# EAGLE library part ATSAMD21G (library atsamd51)
Atmel SAMD21G SMART ARM-Based Microcontroller The Atmel ® | SMART ™ SAM D21 is a series of low-power microcontrollers using the 32-bit ARM ® Cortex ® -M0+ processor, and ranging from 32- to 64-pins with up to 256KB Flash and 32KB of SRAM. The SAM D21 devices operate at a maximum frequency of 48MHz and reach 2.46 CoreMark/MHz. They are designed for simple and intuitive migration with identical peripheral modules, hex compatible code, identical linear address map and pin compatible migration paths between all devices in the product series. All devices include intelligent and flexible peripherals, Atmel Event System for inter-peripheral signaling, and support for capacitive touch button, slider and wheel user interfaces. Datasheet <https://cdn.sparkfun.com/datasheets/Dev/Arduino/Boards/Atmel-42181-SAM-D21_Datasheet.pdf> SparkFun Products SparkFun SAMD21 Mini Breakout <https://www.sparkfun.com/products/13664> (DEV-13664) SparkFun SAMD21 Dev Breakout <https://www.sparkfun.com/products/13672> (DEV-13672)
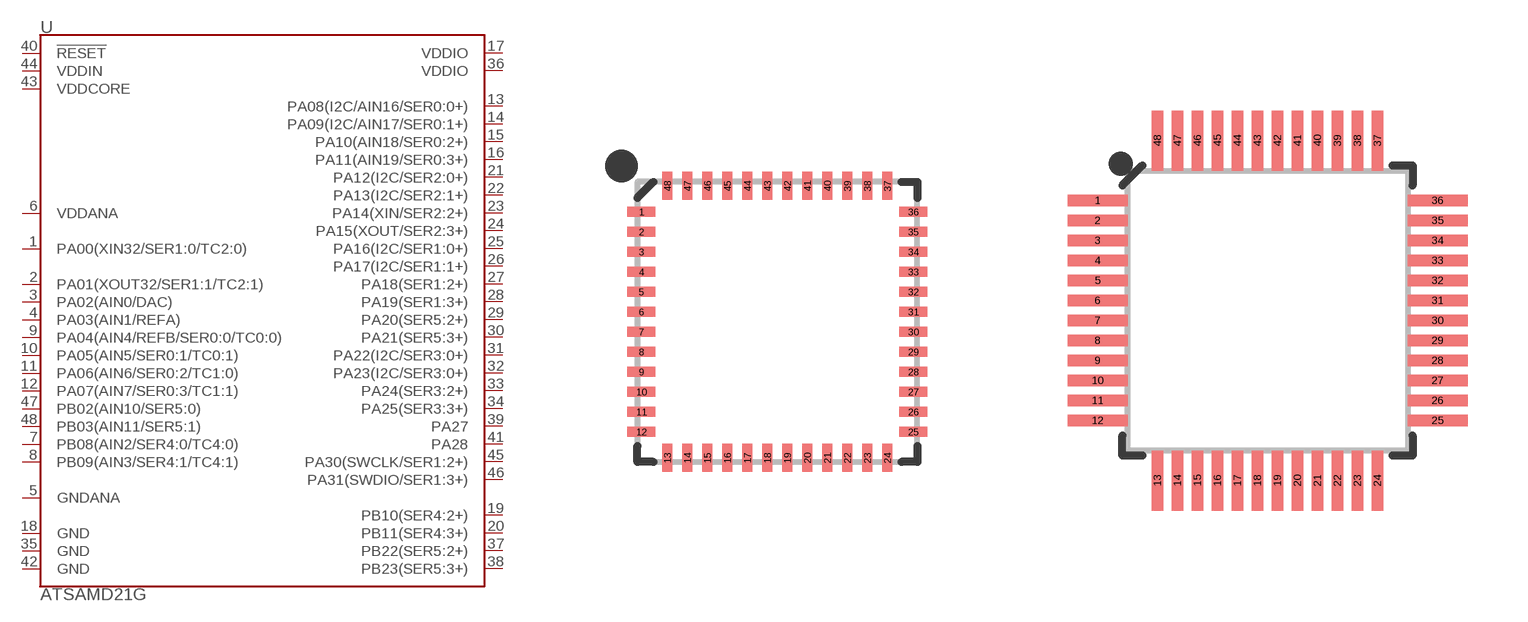
[diagram p0: symbol with the pads of QFN-48; footprints QFN-48, TQFP-48]

Designator prefix U

## ATSAMD21G-M (PROD_ID: IC-13064)  [QFN-48]
1  PA00(XIN32/SER1:0/TC2:0)
2  PA01(XOUT32/SER1:1/TC2:1)
3  PA02(AIN0/DAC)
4  PA03(AIN1/REFA)
5  GNDANA
6  VDDANA
7  PB08(AIN2/SER4:0/TC4:0)
8  PB09(AIN3/SER4:1/TC4:1)
9  PA04(AIN4/REFB/SER0:0/TC0:0)
10  PA05(AIN5/SER0:1/TC0:1)
11  PA06(AIN6/SER0:2/TC1:0)
12  PA07(AIN7/SER0:3/TC1:1)
13  PA08(I2C/AIN16/SER0:0+)
14  PA09(I2C/AIN17/SER0:1+)
15  PA10(AIN18/SER0:2+)
16  PA11(AIN19/SER0:3+)
17  VDDIO
18  GND
19  PB10(SER4:2+)
20  PB11(SER4:3+)
21  PA12(I2C/SER2:0+)
22  PA13(I2C/SER2:1+)
23  PA14(XIN/SER2:2+)
24  PA15(XOUT/SER2:3+)
25  PA16(I2C/SER1:0+)
26  PA17(I2C/SER1:1+)
27  PA18(SER1:2+)
28  PA19(SER1:3+)
29  PA20(SER5:2+)
30  PA21(SER5:3+)
31  PA22(I2C/SER3:0+)
32  PA23(I2C/SER3:0+)
33  PA24(SER3:2+)
34  PA25(SER3:3+)
35  GND
36  VDDIO
37  PB22(SER5:2+)
38  PB23(SER5:3+)
39  PA27
40  !RESET!
41  PA28
42  GND
43  VDDCORE
44  VDDIN
45  PA30(SWCLK/SER1:2+)
46  PA31(SWDIO/SER1:3+)
47  PB02(AIN10/SER5:0)
48  PB03(AIN11/SER5:1)

## ATSAMD21G-A (PROD_ID: IC-13064)  [TQFP-48]
Pads as for QFN-48

## Footprint QFN-48 (pad centres in mm)
48-pin QFN (7x7mm, 0.5mm pitch) Used on: ATSAMD21G
smd 0.7 x 0.25: 1 -3.4,2.75; 2 -3.4,2.25; 3 -3.4,1.75; 4 -3.4,1.25; 5 -3.4,0.75; 6 -3.4,0.25; 7 -3.4,-0.25; 8 -3.4,-0.75; 9 -3.4,-1.25; 10 -3.4,-1.75; 11 -3.4,-2.25; 12 -3.4,-2.75; 25 3.4,-2.75; 26 3.4,-2.25; 27 3.4,-1.75; 28 3.4,-1.25; 29 3.4,-0.75; 30 3.4,-0.25; 31 3.4,0.25; 32 3.4,0.75; 33 3.4,1.25; 34 3.4,1.75; 35 3.4,2.25; 36 3.4,2.75
smd 0.25 x 0.7: 13 -2.75,-3.4; 14 -2.25,-3.4; 15 -1.75,-3.4; 16 -1.25,-3.4; 17 -0.75,-3.4; 18 -0.25,-3.4; 19 0.25,-3.4; 20 0.75,-3.4; 21 1.25,-3.4; 22 1.75,-3.4; 23 2.25,-3.4; 24 2.75,-3.4; 37 2.75,3.4; 38 2.25,3.4; 39 1.75,3.4; 40 1.25,3.4; 41 0.75,3.4; 42 0.25,3.4; 43 -0.25,3.4; 44 -0.75,3.4; 45 -1.25,3.4; 46 -1.75,3.4; 47 -2.25,3.4; 48 -2.75,3.4

## Footprint TQFP-48 (pad centres in mm)
48-pin TQFP (7x7mm, 0.5mm pitch) Used on: ATSAMD21G
smd 1.5 x 0.28: 1 -4.25,2.75; 2 -4.25,2.25; 3 -4.25,1.75; 4 -4.25,1.25; 5 -4.25,0.75; 6 -4.25,0.25; 7 -4.25,-0.25; 8 -4.25,-0.75; 9 -4.25,-1.25; 10 -4.25,-1.75; 11 -4.25,-2.25; 12 -4.25,-2.75; 25 4.25,-2.75; 26 4.25,-2.25; 27 4.25,-1.75; 28 4.25,-1.25; 29 4.25,-0.75; 30 4.25,-0.25; 31 4.25,0.25; 32 4.25,0.75; 33 4.25,1.25; 34 4.25,1.75; 35 4.25,2.25; 36 4.25,2.75
smd 0.28 x 1.5: 13 -2.75,-4.25; 14 -2.25,-4.25; 15 -1.75,-4.25; 16 -1.25,-4.25; 17 -0.75,-4.25; 18 -0.25,-4.25; 19 0.25,-4.25; 20 0.75,-4.25; 21 1.25,-4.25; 22 1.75,-4.25; 23 2.25,-4.25; 24 2.75,-4.25; 37 2.75,4.25; 38 2.25,4.25; 39 1.75,4.25; 40 1.25,4.25; 41 0.75,4.25; 42 0.25,4.25; 43 -0.25,4.25; 44 -0.75,4.25; 45 -1.25,4.25; 46 -1.75,4.25; 47 -2.25,4.25; 48 -2.75,4.25